# EAGLE library part SEGGER-10PIN-JLINK-JTAG (library ClintonLib)
Webpage <https://www.segger.com/products/debug-probes/j-link/accessories/adapters/10-pin-needle-adapter/> Drawing <https://www.segger.com/fileadmin/images/products/J-Link/Accesory/Adapters/Needle_Adapter/J-Link_Needle_Adapter_Footprint_500x.gif> Pinout <https://www.segger.com/fileadmin/images/products/J-Link/Accesory/Adapters/Needle_Adapter/J-Link_Needle_Adapter_Pinout.gif>
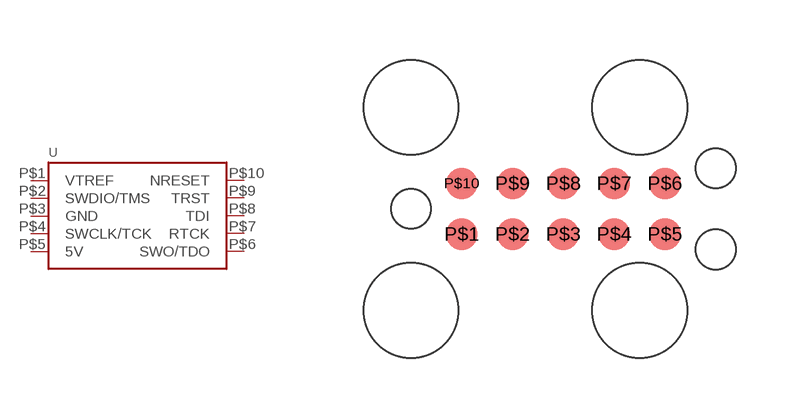
[diagram p28: symbol with the pads of SEGGER-10PIN-JLINK-JTAG; footprint SEGGER-10PIN-JLINK-JTAG]

Designator prefix -

## SEGGER-10PIN-JLINK-JTAG  [SEGGER-10PIN-JLINK-JTAG]
P$1  VTREF
P$2  SWDIO/TMS
P$3  GND
P$4  SWCLK/TCK
P$5  5V
P$6  SWO/TDO
P$7  RTCK
P$8  TDI
P$9  TRST
P$10  NRESET

## Footprint SEGGER-10PIN-JLINK-JTAG (pad centres in mm)
Webpage <https://www.segger.com/products/debug-probes/j-link/accessories/adapters/10-pin-needle-adapter/> Drawing <https://www.segger.com/fileadmin/images/products/J-Link/Accesory/Adapters/Needle_Adapter/J-Link_Needle_Adapter_Footprint_500x.gif> Pinout <https://www.segger.com/fileadmin/images/products/J-Link/Accesory/Adapters/Needle_Adapter/J-Link_Needle_Adapter_Pinout.gif>
smd 0.787 x 0.787: P$1 1.27,-0.635; P$2 2.54,-0.635; P$3 3.81,-0.635; P$4 5.08,-0.635; P$5 6.35,-0.635; P$6 6.35,0.635; P$7 5.08,0.635; P$8 3.81,0.635; P$9 2.54,0.635; P$10 1.27,0.635
hole 0.991 at 0,0
hole 0.991 at 7.62,1.016
hole 0.991 at 7.62,-1.016
hole 2.375 at 0,2.54
hole 2.375 at 0,-2.54
hole 2.375 at 5.715,2.54
hole 2.375 at 5.715,-2.54